# Altium footprint library M6E-NANO.PcbLib: 1 footprints
Each footprint in its own frame and in the unit in brackets; x right, y up, seen from the top. Pads: shape width x height; smd on the part's side, far side on the other; paste and mask are expansions set on the pad; w line width, h text height; cw(c..) or ccw(c..) is an arc to the next point about the centre after c.
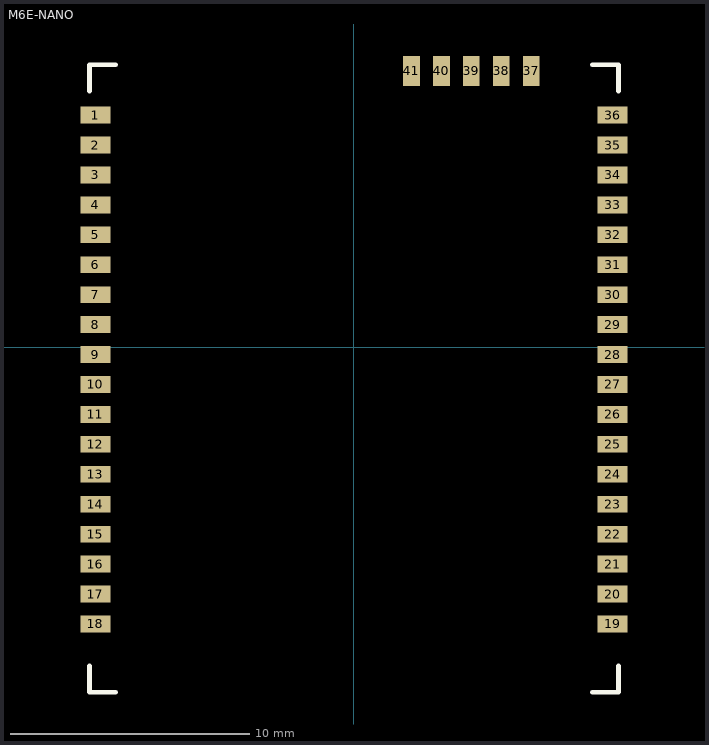
[diagram p0: the footprint, top view; thin cyan lines are the x and y axes]

## M6E-NANO [mm]
pads (41):
  rect 1.25x0.7 smd: 1(-10.8,9.7) 2(-10.8,8.45) 3(-10.8,7.2) 4(-10.8,5.95) 5(-10.8,4.7) 6(-10.8,3.45) 7(-10.8,2.2) 8(-10.8,0.95) 9(-10.8,-0.3) 10(-10.8,-1.55) 11(-10.8,-2.8) 12(-10.8,-4.05) 13(-10.8,-5.3) 14(-10.8,-6.55) 15(-10.8,-7.8) 16(-10.8,-9.05) 17(-10.8,-10.3) 18(-10.8,-11.55) 19(10.8,-11.55) 20(10.8,-10.3) 21(10.8,-9.05) 22(10.8,-7.8) 23(10.8,-6.55) 24(10.8,-5.3) 25(10.8,-4.05) 26(10.8,-2.8) 27(10.8,-1.55) 28(10.8,-0.3) 29(10.8,0.95) 30(10.8,2.2) 31(10.8,3.45) 32(10.8,4.7) 33(10.8,5.95) 34(10.8,7.2) 35(10.8,8.45) 36(10.8,9.7)
  rect 0.7x1.25 smd: 37(7.4,11.55) 38(6.15,11.55) 39(4.9,11.55) 40(3.65,11.55) 41(2.4,11.55)
Top Overlay:
  lines w0.2: -11.05,-13.3 -11.05,-14.4 -9.95,-14.4 ; -11.05,10.7 -11.05,11.8 -9.95,11.8 ; 9.95,-14.4 11.05,-14.4 11.05,-13.3 ; 9.95,11.8 11.05,11.8 11.05,10.7
3D body: height 2.8, standoff 0, extent -9.95,-13.35 9.95,10.7
3D body: height 0.8, standoff 0, extent -10.95,-14.3 10.95,11.7